# Altium footprint library TSW-102-XX-X-S_STEP.PcbLib: 1 footprints
Each footprint in its own frame and in the unit in brackets; x right, y up, seen from the top. Pads: shape width x height; smd on the part's side, far side on the other; paste and mask are expansions set on the pad; w line width, h text height; cw(c..) or ccw(c..) is an arc to the next point about the centre after c.
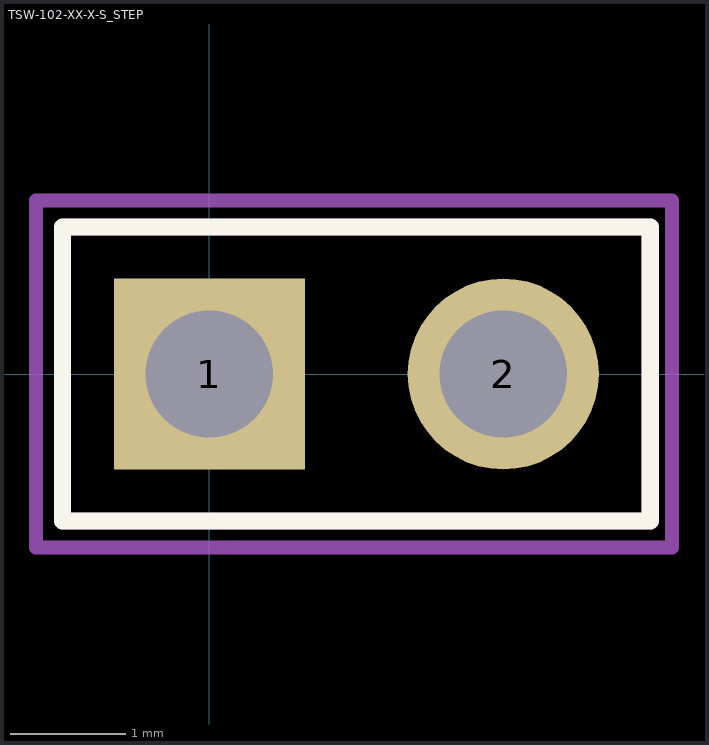
[diagram p0: the footprint, top view; thin cyan lines are the x and y axes]

## TSW-102-XX-X-S_STEP [mil] "HDR2x1_100 MALE PINS"
pads (2):
  rect 65x65 hole 43.31: 1(0,0)
  round 65 hole 43.31: 2(100,0)
Top Overlay:
  lines w5.91: -50,-50 -50,50 150,50 150,-50 -50,-50
Mechanical 13:
  lines w5.91: -50,-50 150,-50 150,50 -50,50 -50,-50
Mechanical 15:
  lines w4.72: -59.06,-59.06 -59.06,59.06 157.48,59.06 157.48,-59.06 -59.06,-59.06
3D body "TSW-102-07-X-S.step": height 330, standoff -100, extent -49.99,-49.99 150.01,50.01